# EAGLE library part RFM69 (library RFM69)
The RFM22 is a low-power, low cost radio that is capable of operating in the 434MHz and 900MHz open bands. It's frequency is software defined and there are some very good libraries written for it.
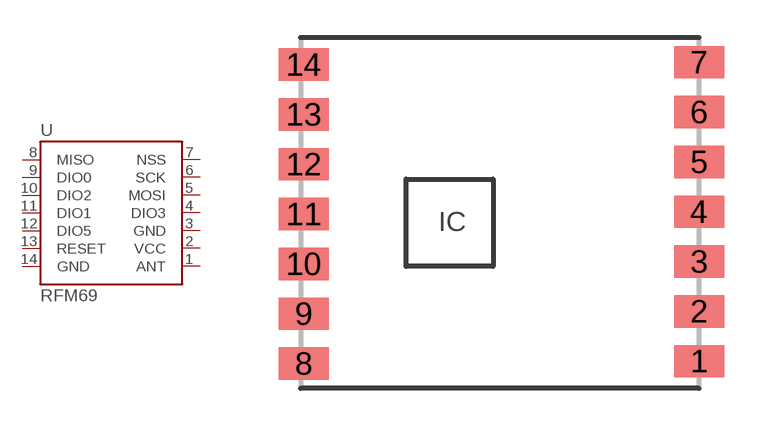
[diagram p0: symbol with the pads of RFM69; footprint RFM69]

Designator prefix -

## RFM69SMD  [RFM69]
1  ANT
2  VCC
3  GND  pwr
4  DIO3  in
5  MOSI  in
6  SCK  in
7  NSS  out
8  MISO  in
9  DIO0  out
10  DIO2  in
11  DIO1  in
12  DIO5  in
13  RESET  pwr
14  GND  pwr

## Footprint RFM69 (pad centres in mm)
Package for Hope RF s RFM22-xxx-S2 SMD wireless transciever, xxx is module s frequency band. *Unproven*''
smd 2 x 1.3: 1 8,-6.27; 2 8,-4.27; 3 8,-2.27; 4 8,-0.27; 5 8,1.73; 6 8,3.73; 7 8,5.73; 8 -7.875,-6.365; 9 -7.875,-4.365; 10 -7.875,-2.365; 11 -7.875,-0.365; 12 -7.875,1.635; 13 -7.875,3.635; 14 -7.875,5.635